# Altium footprint library StLink.PcbLib: 11 footprints
Each footprint in its own frame and in the unit in brackets; x right, y up, seen from the top. Pads: shape width x height; smd on the part's side, far side on the other; paste and mask are expansions set on the pad; w line width, h text height; cw(c..) or ccw(c..) is an arc to the next point about the centre after c.
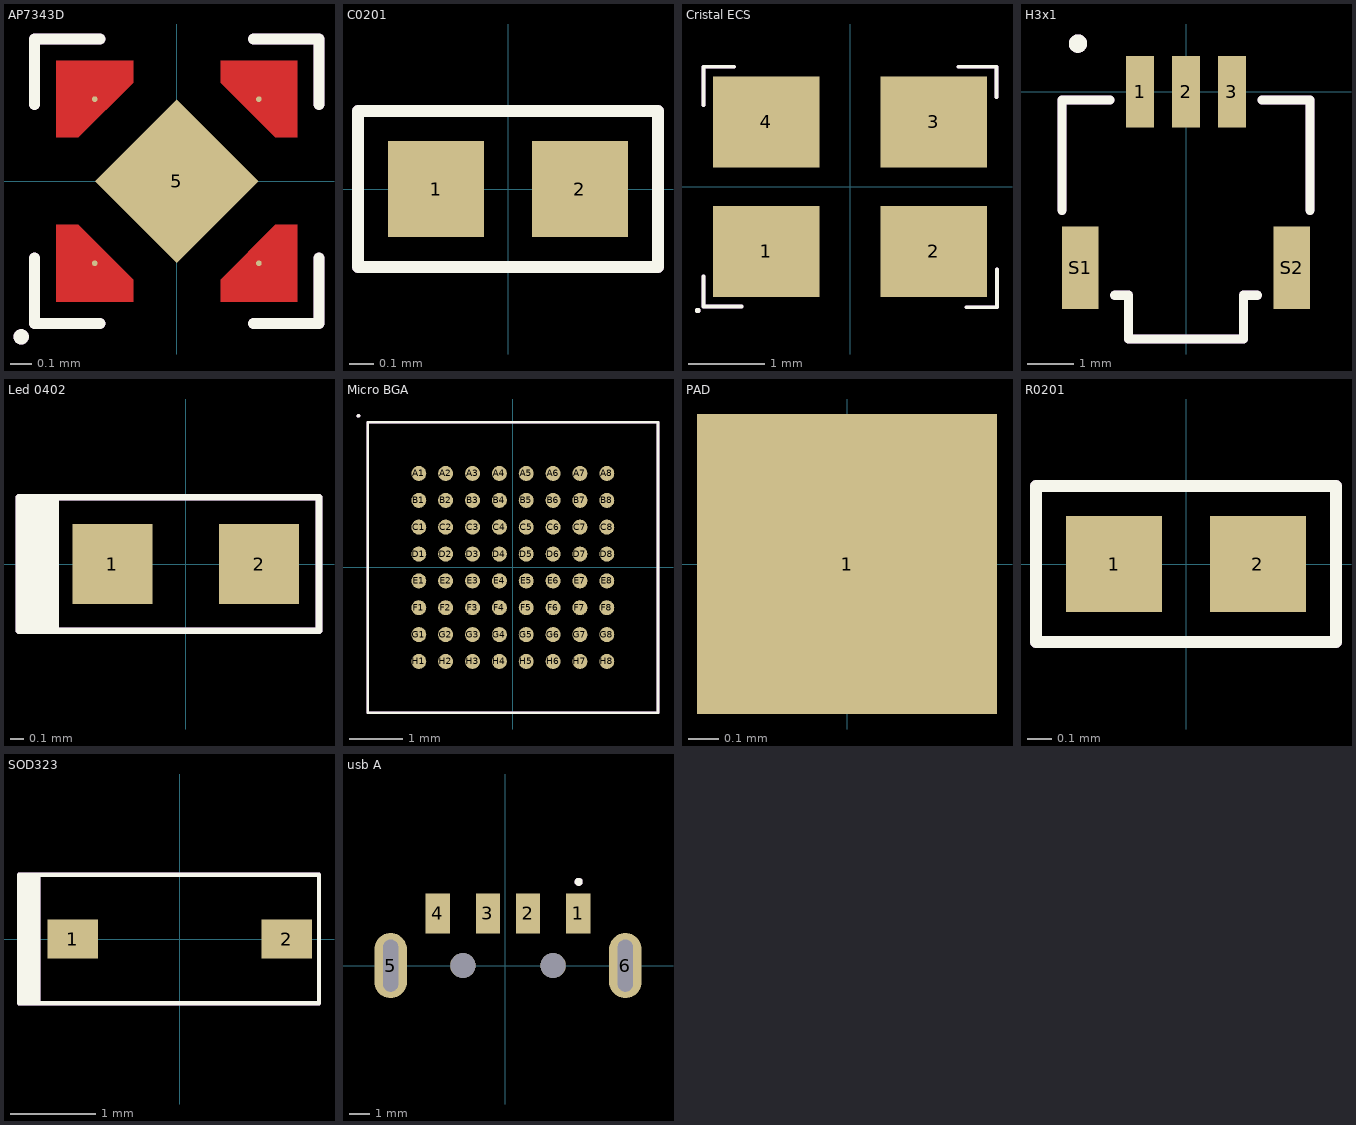
[diagram p0: the footprints below, top view; thin cyan lines are the x and y axes]

## AP7343D [mm]
pads (5):
  round 0.025 smd mask+0.04: 1(-0.375,-0.375) 2(0.375,-0.375) 3(0.375,0.375) 4(-0.375,0.375)
  rect 0.53x0.53 smd rot 45 mask+0.04: 5(0,0)
Top Layer:
  region: -0.45,0.2 -0.2,0.45 -0.2,0.55 -0.55,0.55 -0.55,0.2
  region: 0.45,-0.2 0.2,-0.45 0.2,-0.55 0.55,-0.55 0.55,-0.2
  region: 0.2,0.45 0.45,0.2 0.55,0.2 0.55,0.55 0.2,0.55
  region: -0.2,-0.45 -0.45,-0.2 -0.55,-0.2 -0.55,-0.55 -0.2,-0.55
Top Overlay:
  circle w0.05: c-0.711,-0.711 r0.01
  lines w0.05: -0.65,-0.35 -0.65,-0.65 -0.35,-0.65 ; -0.65,0.35 -0.65,0.65 -0.35,0.65 ; 0.35,-0.65 0.65,-0.65 0.65,-0.35 ; 0.35,0.65 0.65,0.65 0.65,0.35
Mechanical 29:
  circle w0.05: c-0.711,-0.711 r0.01
  lines w0.05: -0.65,-0.35 -0.65,-0.65 -0.35,-0.65 ; -0.65,0.35 -0.65,0.65 -0.35,0.65 ; 0.35,-0.65 0.65,-0.65 0.65,-0.35 ; 0.35,0.65 0.65,0.65 0.65,0.35
  text ".Designator" at -3.599,-0.233 h0.7
3D body "TLV70718PDQNR.STEP": height 0.4, standoff 0, extent -0.5,-0.5 0.5,0.5

## C0201 [mm]
pads (2):
  rect 0.4x0.4 smd mask+0.05: 1(-0.3,0) 2(0.3,0)
Top Overlay:
  lines w0.05: -0.625,-0.325 0.625,-0.325 0.625,0.325 -0.625,0.325 -0.625,-0.325
Mechanical 29:
  lines w0.05: -0.625,-0.325 0.625,-0.325 0.625,0.325 -0.625,0.325 -0.625,-0.325
  text ".Designator" at -3.599,-0.233 h0.7
3D body "RC0201FR-07560RL.STEP": height 0.27, standoff 0.01, extent -0.3,-0.15 0.3,0.15

## Cristal ECS [mm]
pads (4):
  rect 1.4x1.2 smd paste+0 mask+0.05: 1(-1.1,-0.85) 2(1.1,-0.85) 3(1.1,0.85) 4(-1.1,0.85)
Top Overlay:
  circle w0.05: c-2,-1.625 r0.01
  lines w0.05: -1.925,-1.175 -1.925,-1.575 -1.425,-1.575 ; -1.925,1.075 -1.925,1.575 -1.525,1.575 ; 1.425,1.575 1.925,1.575 1.925,1.175 ; 1.53,-1.583 1.93,-1.583 1.93,-1.083
Mechanical 29:
  circle w0.05: c-2,-1.625 r0.01
  lines w0.05: -1.925,-1.175 -1.925,-1.575 -1.425,-1.575 ; -1.925,1.075 -1.925,1.575 -1.525,1.575 ; 1.425,1.575 1.925,1.575 1.925,1.175 ; 1.53,-1.583 1.93,-1.583 1.93,-1.083
  text ".Designator" at -3.599,-0.233 h0.7
3D body "ECS-80-12-33-JGN-TR.STEP": height 0.81, standoff 0.01, extent -1.625,-1.25 1.575,1.25

## H3x1 [mm]
pads (5):
  rect 0.6x1.55 smd mask+0.05: 1(-1,0) 2(0,0) 3(1,0)
  rect 0.8x1.8 smd mask+0.05: S1(-2.3,-3.825) S2(2.3,-3.825)
Top Overlay:
  circle w0.2: c-2.35,1.05 r0.1
  lines w0.2: -2.7,-2.575 -2.7,-0.175 -1.65,-0.175 ; -1.55,-4.425 -1.25,-4.425 -1.25,-5.375 1.25,-5.375 1.25,-4.425 1.55,-4.425 ; 1.65,-0.175 2.7,-0.175 2.7,-2.575
Mechanical 29:
  circle w0.2: c-2.35,1.05 r0.1
  lines w0.2: -2.7,-2.575 -2.7,-0.175 -1.65,-0.175 ; -1.55,-4.425 -1.25,-4.425 -1.25,-5.375 1.25,-5.375 1.25,-4.425 1.55,-4.425 ; 1.65,-0.175 2.7,-0.175 2.7,-2.575
  text ".Designator" at -3.599,-2.633 h0.7
3D body "T1M-03-F-SH-L.stp": height 4.16, standoff -0.44, extent -2.7,-5.449 2.7,0.449

## Led 0402 [mm]
pads (2):
  rect 0.6x0.6 smd mask+0.05: 1(-0.55,0) 2(0.55,0)
Top Overlay:
  rectangle: -1.25,-0.5 -0.95,0.5
  lines w0.05: -1.25,-0.5 -1.25,0.5 1,0.5 1,-0.5 -1.25,-0.5
Mechanical 29:
  rectangle: -1.25,-0.5 -0.95,0.5
  lines w0.05: -1.25,-0.5 -1.25,0.5 1,0.5 1,-0.5 -1.25,-0.5
  text ".Designator" at -3.599,-0.233 h0.7
3D body "Download_STP_WL-SMCC-0402+%28rev1%29.stp": height 0.4, standoff 0, extent -0.525,-0.25 0.475,0.25

## Micro BGA [mil]
pads (64):
  round 11 smd paste+0 mask+0: A1(-68.95,68.95) A2(-49.25,68.95) A3(-29.55,68.95) A4(-9.85,68.95) A5(9.85,68.95) A6(29.55,68.95) A7(49.25,68.95) A8(68.95,68.95) B1(-68.95,49.25) B2(-49.25,49.25) B3(-29.55,49.25) B4(-9.85,49.25) B5(9.85,49.25) B6(29.55,49.25) B7(49.25,49.25) B8(68.95,49.25) C1(-68.95,29.55) C2(-49.25,29.55) C3(-29.55,29.55) C4(-9.85,29.55) C5(9.85,29.55) C6(29.55,29.55) C7(49.25,29.55) C8(68.95,29.55) D1(-68.95,9.85) D2(-49.25,9.85) D3(-29.55,9.85) D4(-9.85,9.85) D5(9.85,9.85) D6(29.55,9.85) D7(49.25,9.85) D8(68.95,9.85) E1(-68.95,-9.85) E2(-49.25,-9.85) E3(-29.55,-9.85) E4(-9.85,-9.85) E5(9.85,-9.85) E6(29.55,-9.85) E7(49.25,-9.85) E8(68.95,-9.85) F1(-68.95,-29.55) F2(-49.25,-29.55) F3(-29.55,-29.55) F4(-9.85,-29.55) F5(9.85,-29.55) F6(29.55,-29.55) F7(49.25,-29.55) F8(68.95,-29.55) G1(-68.95,-49.25) G2(-49.25,-49.25) G3(-29.55,-49.25) G4(-9.85,-49.25) G5(9.85,-49.25) G6(29.55,-49.25) G7(49.25,-49.25) G8(68.95,-49.25) H1(-68.95,-68.95) H2(-49.25,-68.95) H3(-29.55,-68.95) H4(-9.85,-68.95) H5(9.85,-68.95) H6(29.55,-68.95) H7(49.25,-68.95) H8(68.95,-68.95)
Top Overlay:
  circle w1.97: c-113.19,111.22 r0.35
  lines w1.97: -106.5,-106.5 106.5,-106.5 106.5,106.5 -106.5,106.5 -106.5,-106.5
Mechanical 29:
  circle w1.97: c-113.19,111.22 r0.35
  lines w1.97: -106.5,-106.5 106.5,-106.5 106.5,106.5 -106.5,106.5 -106.5,-106.5
  text ".Designator" at -141.69,-9.18 h27.56
3D body "TFBGA64_5X5.step": height 47.09, standoff 0.01, extent -101.5,-101.5 101.5,101.5

## PAD [mm]
pads (1):
  rect 1x1 smd mask+0.05: 1(0,0)
Mechanical 29:
  text ".Designator" at -3.599,-0.233 h0.7

## PCBComponent_1 [mil]

## R0201 [mm]
pads (2):
  rect 0.4x0.4 smd mask+0.05: 1(-0.3,0) 2(0.3,0)
Top Overlay:
  lines w0.05: -0.625,-0.325 -0.625,0.325 0.625,0.325 0.625,-0.325 -0.625,-0.325
Mechanical 29:
  lines w0.05: -0.625,-0.325 -0.625,0.325 0.625,0.325 0.625,-0.325 -0.625,-0.325
  text ".Designator" at -3.599,-0.233 h0.7
3D body "RC0201FR-07560RL.STEP": height 0.27, standoff 0.01, extent -0.3,-0.15 0.3,0.15

## SOD323 [mm]
pads (2):
  rect 0.59x0.45 smd mask+0.05: 1(-1.25,0) 2(1.25,0)
Top Overlay:
  rectangle: -1.875,-0.75 -1.625,0.75
  lines w0.05: -1.875,-0.75 -1.875,0.75 1.625,0.75 1.625,-0.75 -1.875,-0.75
Mechanical 29:
  rectangle: -1.875,-0.75 -1.625,0.75
  lines w0.05: -1.875,-0.75 -1.875,0.75 1.625,0.75 1.625,-0.75 -1.875,-0.75
  text ".Designator" at -3.599,-0.233 h0.7
3D body "SOD323_DIO.step": height 0.81, standoff 0, extent -1.35,-0.7 1.35,0.7

## usb A [mm]
pads (8):
  rect 1.2x2 smd mask+0.05: 1(3.627,2.6) 2(1.127,2.6) 3(-0.873,2.6) 4(-3.373,2.6)
  oval 1.625x3.25 hole 0.75 slot 2.6 at 90 deg mask+0.05: 5(-5.723,0) 6(5.977,0)
  round 1.25 hole 1.25 unplated mask+0.05: ""(-2.123,0) ""(2.377,0)
Top Overlay:
  circle w0.2: c3.65,4.175 r0.1
Mechanical 29:
  circle w0.2: c3.65,4.175 r0.1
  text ".Designator" at -3.624,-0.258 h0.7
3D body "480372200.stp": height 2.11, standoff -2.39, extent -5.925,-17.675 6.125,3.275